# EAGLE library part 2601-1104 (library 2601-1104)
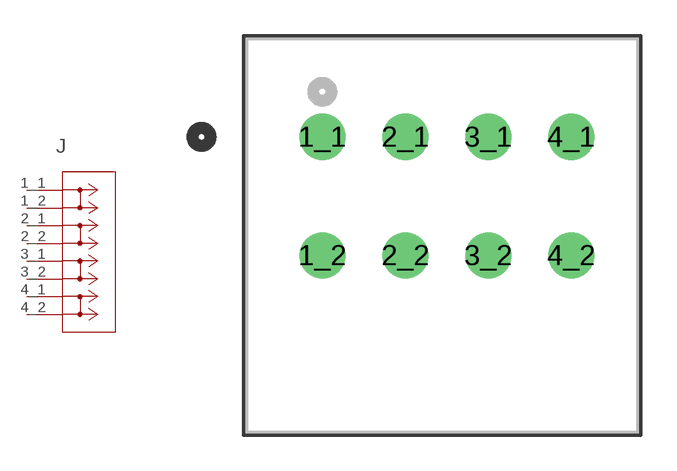
[diagram p0: symbol with the pads of CONN_2601-1104_WAG; footprint CONN_2601-1104_WAG]

Designator prefix J

## 2601-1104CONN_2601-1104_WAG (Copyright: Copyright (C) 2024 Ultra Librarian. All rights reserved.; Manufacturer_Part_Number: 2601-1104; Mfr_Name: Wago)  [CONN_2601-1104_WAG]
1_1  1_1  pas
1_2  1_2  pas
2_1  2_1  pas
2_2  2_2  pas
3_1  3_1  pas
3_2  3_2  pas
4_1  4_1  pas
4_2  4_2  pas

## Footprint CONN_2601-1104_WAG (pad centres in mm)
drill 1.295 pad 1.803 round: 1_1 0,0; 1_2 0,-5; 2_1 3.5,0; 2_2 3.5,-5; 3_1 7,0; 3_2 7,-5; 4_1 10.5,0; 4_2 10.5,-5